# EAGLE library part JST10 (library mastrogippo)
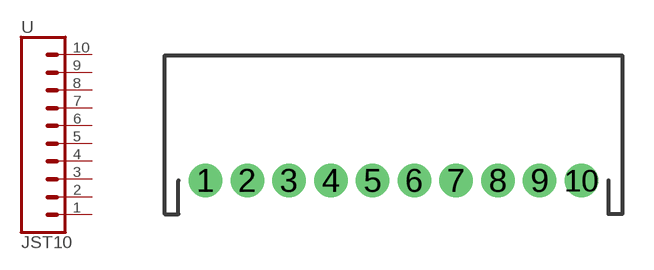
[diagram p26: symbol with the pads of JST-10-PTH; footprint JST-10-PTH]

Designator prefix -

## JST10  [JST-10-PTH]
1  1  pas
2  2  pas
3  3  pas
4  4  pas
5  5  pas
6  6  pas
7  7  pas
8  8  pas
9  9  pas
10  10  pas

## Footprint JST-10-PTH (pad centres in mm)
drill 0.7 pad 1.6: 1 -4,0; 2 -2,0; 3 0,0; 4 2,0; 5 4,0; 6 6,0; 7 8,0; 8 10,0; 9 12,0; 10 14,0